# EAGLE library part CONTROLLER_USB-C-12P (library Tyr)
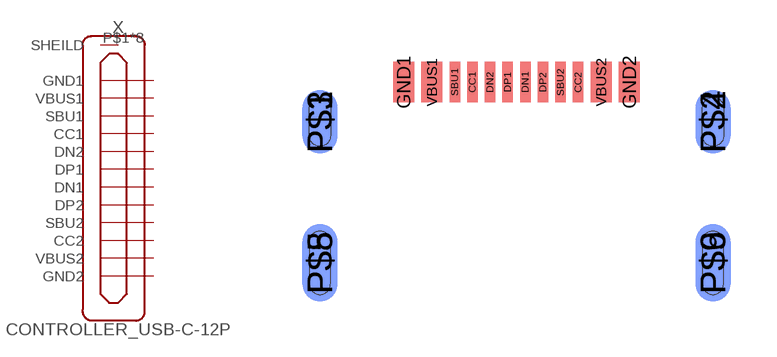
[diagram p0: symbol with the pads of CONTROLLER_USB-C-12P-INBOARD; footprint CONTROLLER_USB-C-12P-INBOARD]

Designator prefix X

## CONTROLLER_USB-C-12PUSB-C-12P-INBOARD  [CONTROLLER_USB-C-12P-INBOARD]
CC1  CC1  pas
CC2  CC2  in
DN1  DN1  pas
DN2  DN2  pas
DP1  DP1  pas
DP2  DP2  pas
GND1  GND1  pas
GND2  GND2  in
P$1  SHEILD
P$2  SHEILD
P$3  SHEILD
P$4  SHEILD
P$5  SHEILD
P$6  SHEILD
P$8  SHEILD
P$9  SHEILD
SBU1  SBU1  pas
SBU2  SBU2  in
VBUS1  VBUS1  in
VBUS2  VBUS2  pas

## Footprint CONTROLLER_USB-C-12P-INBOARD (pad centres in mm)
smd 0.3 x 1.15: CC1 -1.25,3; CC2 1.75,3; DN1 0.25,3; DN2 -0.75,3; DP1 -0.25,3; DP2 0.75,3; SBU1 -1.75,3; SBU2 1.25,3
smd 0.6 x 1.15: GND1 -3.2,3; GND2 3.2,3; VBUS1 -2.4,3; VBUS2 2.4,3
smd 1 x 1.8: P$1 -5.575,1.875; P$2 5.575,1.875
smd 1 x 1.8 bottom: P$3 -5.575,1.875; P$4 5.575,1.875
smd 1 x 2.2: P$5 -5.575,-2.125; P$6 5.575,-2.125
smd 1 x 2.2 bottom: P$8 -5.575,-2.125; P$9 5.575,-2.125